# Altium schematic symbol library AD8302.SchLib: 1 symbol
Pins are listed as number, name and electrical type; pins without a type are passive.

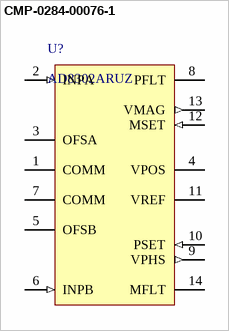
[diagram p0: symbol CMP-0284-00076-1]

## CMP-0284-00076-1
designator U?, comment AD8302ARUZ
LF-2.7 GHz RF/IF Gain and Phase Detector, 60ns Response Time, RU-14, Pb-Free, 96 Tube; Voltage Supply (V): 2.7 to 5.5; RF Frequency (MHz): 2700; Dynamic Range (dB): 60dB; Supply Current: 19mA; Temp Stability (dB): 1dB; Product Description: Dual-Channel Gain and Phase Outputs; ComponentLink1URL: www.analog.com; Response Time (ns typ): 60ns; ComponentLink1Description: Manufacturer URL; Code_JEDEC: MO-153AB-1; ComponentLink3URL: http://www.analog.com/static/imported-files/packages/36057385283879153717235186773RU14.pdf; PackageReference: RU-14; PackageVersion: Aug-2002; DatasheetVersion: Rev. A; ComponentLink2URL: http://www.analog.com/static/imported-files/data_sheets/AD8302.pdf; ComponentLink3Description: Package Specification; PackageDescription: 14-Lead Thin Shrink Small Outline Package [TSSOP]; ComponentLink2Description: Datasheet
footprint ADI-RU-14_L (TSOP, 14-Leads, Body 5x4.4mm, Pitch 0.65mm, IPC High Density)
pins: 1 COMM (power) "Device Common. Connect to low impedance ground.", 2 INPA (in) "High Input Impedance to Channel A. Must be ac-coupled.", 3 OFSA "A capacitor to ground at this pin sets the offset compensation filter corner and provides input decoupling.", 4 VPOS (power) "Voltage Supply (VS), 2.7 V to 5.5 V.", 5 OFSB "A capacitor to ground at this pin sets the offset compensation filter corner and provides input decoupling.", 6 INPB (in) "Input to Channel B. Same structure as INPA.", 7 COMM (power) "Device Common. Connect to low impedance ground.", 8 PFLT "Low Pass Filter Terminal for the Phase Output.", 9 VPHS (out) "Single-Ended Output Proportional to the Phase Difference between INPA and INPB.", 10 PSET (in) "Feedback Pin for Scaling of VPHS Output Voltage in Measurement Mode. Apply a setpoint voltage for controller mode.", 11 VREF (power) "Internally Generated Reference Voltage (1.8 V Nominal)", 12 MSET (in) "Feedback Pin for Scaling of VMAG Output Voltage Measurement Mode.Accepts a set point voltage in controller mode", 13 VMAG (out) "Single-Ended Output. Output voltage proportional to the decibel ratio of signals applied to INPA and INPB.", 14 MFLT "Low Pass Filter Terminal for the Magnitude Output"